# EAGLE library part HM-11 (library Interface)
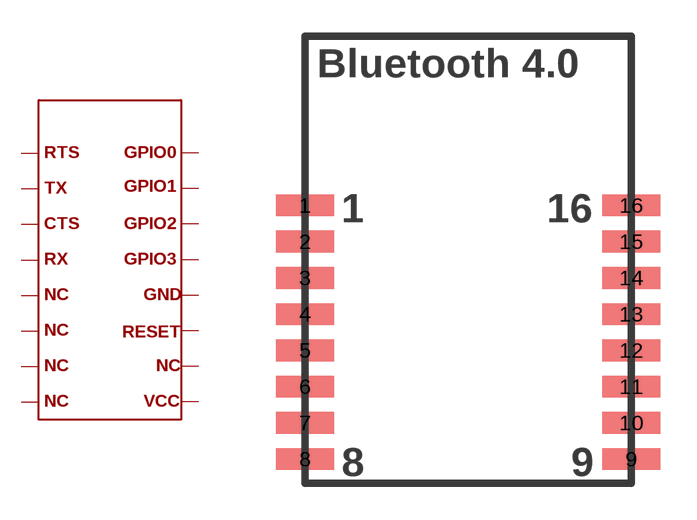
[diagram p5: symbol with the pads of HM-11; footprint HM-11]

Designator prefix -

## HM-11  [HM-11]
1  P$1
2  P$2
3  P$3
4  P$4
5  P$5
6  P$6
7  P$7
8  P$8
9  P$9
10  P$10
11  P$11
12  P$12
13  P$13
14  P$14
15  P$15
16  P$16

## Footprint HM-11 (pad centres in mm)
smd 2.4 x 0.9: 1 -6.5,2; 2 -6.5,0.5; 3 -6.5,-1; 4 -6.5,-2.5; 5 -6.5,-4; 6 -6.5,-5.5; 7 -6.5,-7; 8 -6.5,-8.5; 9 7,-8.5; 10 7,-7; 11 7,-5.5; 12 7,-4; 13 7,-2.5; 14 7,-1; 15 7,0.5; 16 7,2